# Altium footprint library tecctrl.PcbLib: 33 footprints (part 2 of 3)
Each footprint in its own frame and in the unit in brackets; x right, y up, seen from the top. Pads: shape width x height; smd on the part's side, far side on the other; paste and mask are expansions set on the pad; w line width, h text height; cw(c..) or ccw(c..) is an arc to the next point about the centre after c.
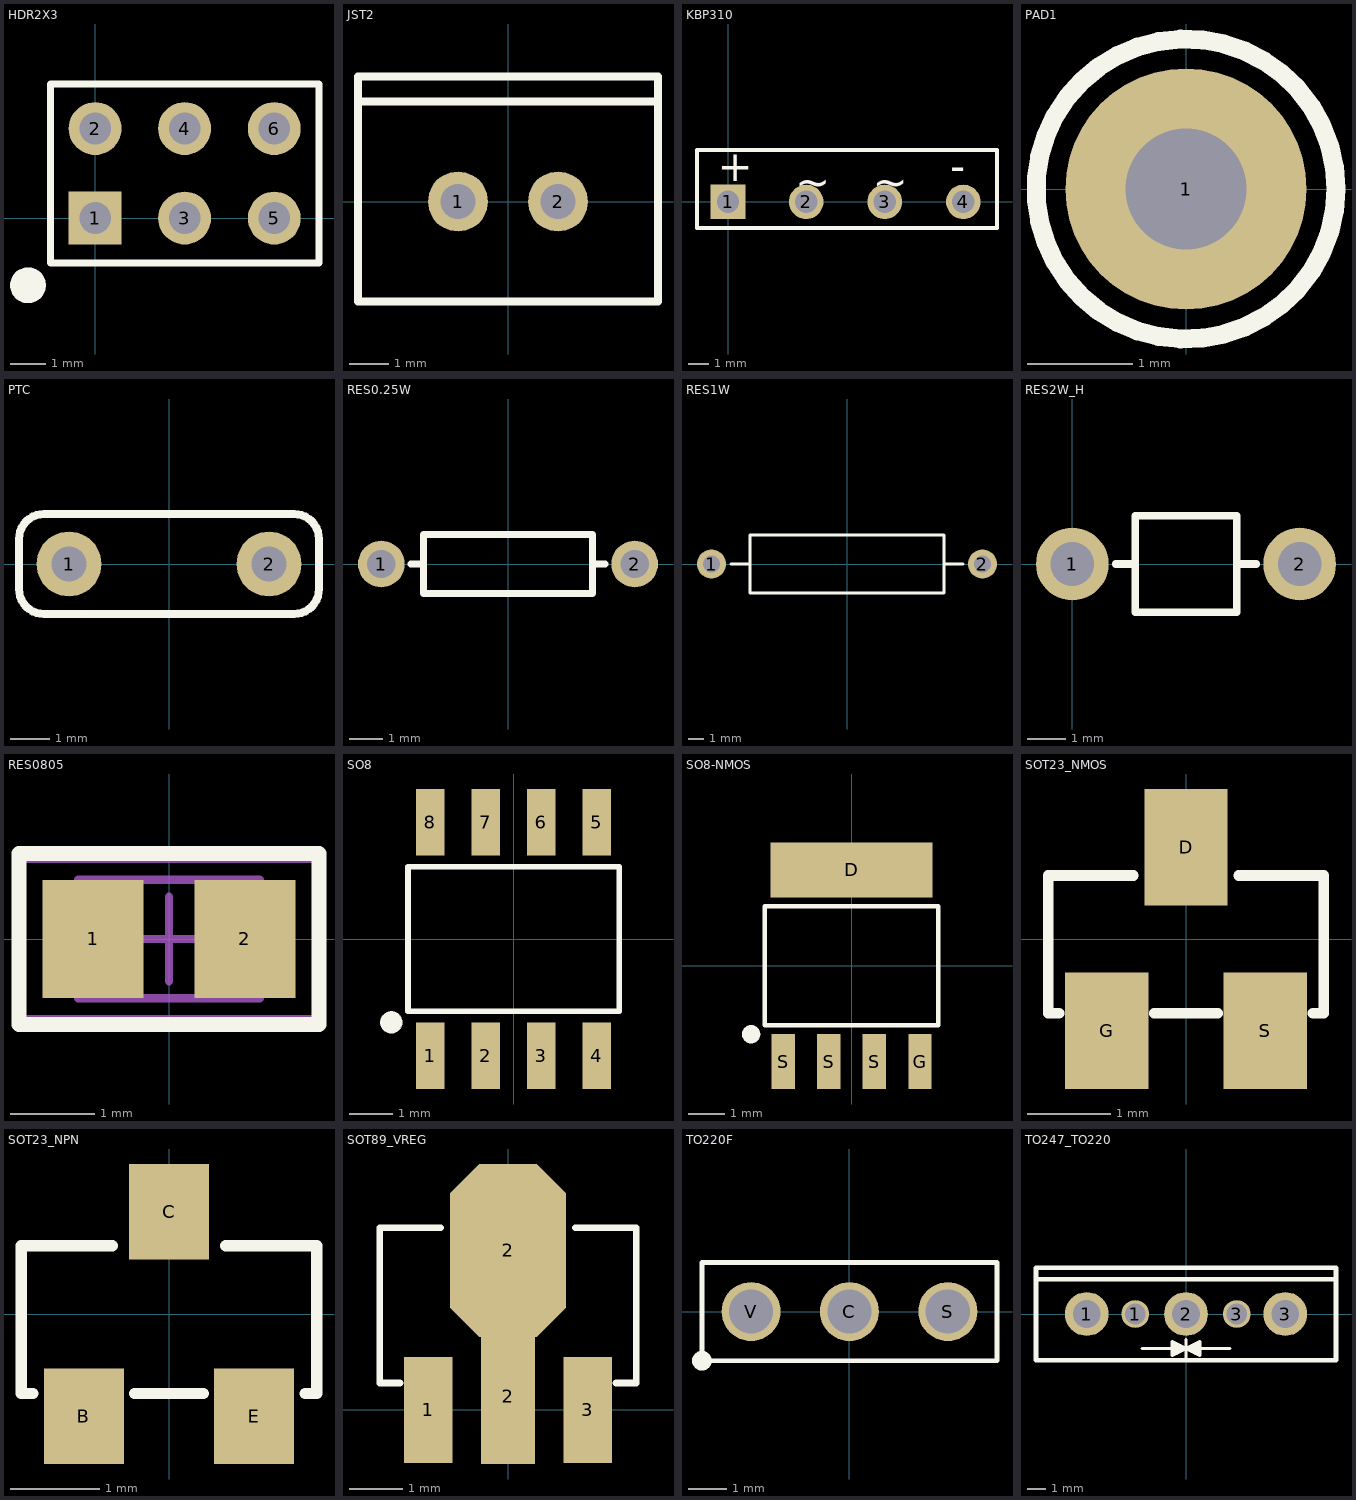
[diagram p1: the footprints below, top view; thin cyan lines are the x and y axes]

## HDR2X3 [mm] "Connector; Header; 3x2 Position"
height 5.08
pads (6):
  rect 1.5x1.5 hole 0.9: 1(0,0)
  round 1.5 hole 0.9: 2(0,2.54) 3(2.54,0) 4(2.54,2.54) 5(5.08,0) 6(5.08,2.54)
Top Overlay:
  circle w0.508: c-1.905,-1.905 r0.254
  lines w0.2: 1.482,-1.27 6.35,-1.27 ; 6.35,-1.27 -1.27,-1.27 -1.27,3.81 6.35,3.81 6.35,-1.27
3D body: height 8.79, standoff -2.75, extent -1.27,1.27 6.35,3.81
3D body: height 8.79, standoff -2.75, extent -1.27,-1.27 6.35,1.27

## JST2 [mil]
height 236.22
pads (2):
  round 60 hole 35: 1(-50,0) 2(50,0)
Top Overlay:
  lines w7.87: -150,100 150,100 ; -150,-100 -150,125 150,125 150,-100 -150,-100
3D body: height 280.59, standoff -120.98, extent -149.28,-94.17 146,134.17

## KBP310 [mm]
height 11.43
pads (4):
  rect 1.7x1.7 hole 1.1: 1(0,0)
  round 1.7 hole 1.1: 2(3.835,0) 3(7.696,0) 4(11.557,0)
Top Overlay:
  lines w0.2: -1.524,-1.27 13.208,-1.27 13.208,2.54 -1.524,2.54 -1.524,-1.27
  text "~" at 3.302,0.254 h1.5
  text "~" at 7.112,0.254 h1.5
  text "-" at 10.922,1.016 h1.5
  text "+" at -0.508,1.016 h1.5
3D body: height 13.54, standoff -1.46, extent -2.031,-1.619 13.969,2.381

## PAD1 [mil]
height 30
pads (1):
  round 90 hole 45: 1(0,0)
Top Overlay:
  circle w7: c0,0 r55.9

## PTC [mm]
height 6
pads (2):
  round 1.65 hole 0.889: 1(-2.54,0) 2(2.54,0)
Top Overlay:
  lines w0.2: -3.81,-0.635 -3.81,0.635 ; -3.175,-1.27 3.175,-1.27 ; -3.175,1.27 3.175,1.27 ; 3.81,-0.635 3.81,0.635
  lines w0.203: -3.81,-0.635 ccw(c-3.175,-0.635) -3.175,-1.27 ; -3.81,0.635 cw(c-3.175,0.635) -3.175,1.27 ; 3.175,-1.27 ccw(c3.175,-0.635) 3.81,-0.635 ; 3.175,1.27 cw(c3.175,0.635) 3.81,0.635
3D body: height 11.97, standoff -2.72, extent -3.957,-2.813 4.028,2.791

## RES0.25W [mm] "Resistor; 2 Leads"
height 1.524
pads (2):
  round 1.4 hole 0.85: 1(-3.81,0) 2(3.81,0)
Top Overlay:
  lines w0.2: -2.921,0 -2.54,0 ; 2.54,0 2.921,0 ; -2.54,-0.889 -2.54,0.889 2.54,0.889 2.54,-0.889 -2.54,-0.889
3D body: height 2.24, standoff -1.27, extent -4.064,-0.927 4.064,1.016

## RES1W [mil] "Resistor; 2 Leads"
height 60
pads (2):
  round 75 hole 45: 1(-350,0) 2(350,0)
Top Overlay:
  lines w7.87: -300,0 -250,0 ; 250,0 300,0 ; -250,-75 -250,75 250,75 250,-75 -250,-75
3D body: height 263.23, standoff -150, extent -363.74,-118.94 367.75,116.96

## RES2W_H [mil] "Resistor; 2 Leads"
height 60
pads (2):
  round 75 hole 45: 1(0,0) 2(235,0)
Top Overlay:
  lines w7.87: 45,0 65,0 ; 170,0 190,0 ; 65,-50 65,50 170,50 170,-50 65,-50
3D body: height 936.22, standoff -93.31, extent -70.86,-129.92 259.85,129.92

## RES0805 [mm]
height 0.762
pads (2):
  rect 1.2x1.4 smd: 1(-0.9,0) 2(0.9,0)
Top Overlay:
  lines w0.178: -1.778,-1.016 -1.778,1.016 1.778,1.016 1.778,-1.016 -1.778,-1.016
Mechanical 13:
  lines w0.1: -1.075,-0.7 1.075,-0.7 1.075,0.7 -1.075,0.7 -1.075,-0.7
Mechanical 15:
  lines w0.1: -0.5,0 0.5,0 ; 0,-0.5 0,0.5 ; -1.75,-0.95 1.75,-0.95 1.75,0.95 -1.75,0.95 -1.75,-0.95
3D body: height 0.76, standoff 0, extent -1.125,-0.69 1.175,0.66

## SO8 [mil]
pads (8):
  rect 25.59x60 smd: 1(-75,-105) 2(-25,-105) 3(25,-105) 4(75,-105) 5(75,105) 6(25,105) 7(-25,105) 8(-75,105)
Top Overlay:
  circle w10: c-110,-75 r5
  lines w5: -95,-65 95,-65 95,65 -95,65 -95,-65
3D body: height 66.93, standoff 0, extent -96.46,-118.1 96.46,118.12

## SO8-NMOS [mil]
pads (5):
  rect 177.17x60 smd: D(0,105)
  rect 25.59x60 smd: G(75,-105) S(-75,-105) S(-25,-105) S(25,-105)
Top Overlay:
  circle w10: c-110,-75 r5
  lines w5: -95,-65 95,-65 95,65 -95,65 -95,-65
3D body: height 66.93, standoff 0, extent -96.46,-118.1 96.46,118.12

## SOT23_NMOS [mm]
height 6
pads (3):
  rect 1x1.4 smd: D(0,1.1) G(-0.95,-1.1) S(0.95,-1.1)
Top Overlay:
  lines w0.127: -1.524,-0.889 -1.651,-0.889 -1.651,0.762 -0.635,0.762 ; -0.381,-0.889 0.381,-0.889 ; 0.635,0.762 1.651,0.762 1.651,-0.889 1.524,-0.889
3D body: height 1.08, standoff 0, extent -1.5,-1.32 1.5,1.32

## SOT23_NPN [mil]
height 236.22
pads (3):
  rect 35x42 smd: B(-37.4,-45) C(0,45) E(37.4,-45)
Top Overlay:
  lines w5: -60,-35 -65,-35 -65,30 -25,30 ; -15,-35 15,-35 ; 25,30 65,30 65,-35 60,-35
3D body: height 42.52, standoff 0, extent -59.05,-51.97 59.06,51.97

## SOT89_VREG [mm]
height 6
pads (4):
  rect 0.92x2 smd: 1(-1.5,0) 3(1.5,0)
  rect 1.016x2.54 smd: 2(0,0.254)
  oct 2.184x3.251 smd: 2(0,3)
Top Overlay:
  lines w0.127: -2.032,0.508 -2.413,0.508 -2.413,3.429 -1.27,3.429 ; 1.27,3.429 2.413,3.429 2.413,0.508 2.032,0.508
3D body: height 1.51, standoff 0, extent -2.214,-0.372 2.286,3.928

## TO220F [mil] "DIODE"
pads (3):
  round 60 hole 45: C(0,0) S(100,0) V(-100,0)
Top Overlay:
  circle w10: c-150,-50 r5
  lines w5: -150,-50 150,-50 150,50 -150,50 -150,-50
3D body: height 860.24, standoff -272.83, extent -193.88,-83.16 195.88,94

## TO247_TO220 [mil]
height 200
pads (5):
  round 95 hole 60: 1(-215,0) 2(0,0) 3(215,0)
  round 60 hole 45: 1(-110,0) 3(110,0)
Top Overlay:
  lines w7: -95,-75 0,-75 ; -25,-85 -25,-65 ; -20,-85 -20,-65 ; -15,-82.5 -15,-67.5 ; 0,-95 0,-55 ; 15,-82.5 15,-67.5 ; 20,-85 20,-65 ; 25,-85 25,-65 ; 95,-75 0,-75 ; 0,-75 -30,-90 -30,-60 0,-75 ; 0,-75 30,-90 30,-60 0,-75
  lines w10: -325,75 325,75 ; -325,-100 325,-100 325,100 -325,100 -325,-100
3D body: height 1043.7, standoff -375.53, extent -311.02,-94 311.03,115.06